# Altium integrated library WL-TMRW THT LED round mono-color waterclear.IntLib: 8 symbols
Pins are listed as number, name and electrical type; pins without a type are passive.

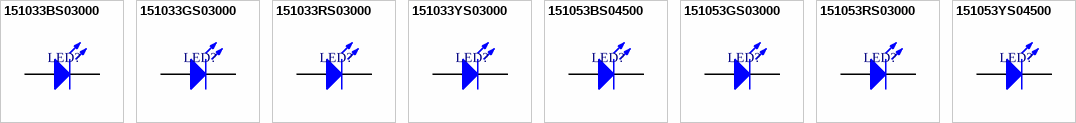
[diagram p0: symbols 151033BS03000 to 151053YS04500]

## 151033BS03000
designator LED?
THT LED round mono-color waterclear, WL-TMRW , Blue; PartNumber: 151033BS03000; PackageReference: Type 3mm; Emitting color: Blue; ComponentLink1Description: Manufacturer URL; ComponentLink1URL: http://www.we-online.com; ComponentLink2Description: Datasheet; ComponentLink2URL: http://katalog.we-online.de/pbs/datasheet/7448042001.pdfhttp://katalog.we-online.de/pbs/datasheet/7448042001.pdfhttp://katalog.we-online.de/pbs/datasheet/7448042001.pdfhttp://katalog.we-online.de/pbs/datasheet/151033BS03000.pdf
footprint Type 3mm (THT, LED-3mm, 2pin- Body 4.15mm(max))
pins: 1 K, 2 A

## 151033GS03000
designator LED?
THT LED round mono-color waterclear, THT WL-TMRW ,Green; PartNumber: 151033GS03000; PackageReference: Type 3mm; Emitting color: Green; ComponentLink1Description: Manufacturer URL; ComponentLink1URL: http://www.we-online.com; ComponentLink2Description: Datasheet; ComponentLink2URL: http://katalog.we-online.de/pbs/datasheet/7448042001.pdfhttp://katalog.we-online.de/pbs/datasheet/7448042001.pdfhttp://katalog.we-online.de/pbs/datasheet/7448042001.pdfhttp://katalog.we-online.de/pbs/datasheet/151033GS03000.pdf
footprint Type 3mm (THT, LED-3mm, 2pin- Body 4.15mm(max))
pins: 1 K, 2 A

## 151033RS03000
designator LED?
THT LED round mono-color waterclear, WL-TMRW, Red; PartNumber: 151033RS03000; PackageReference: Type 3mm; Emitting color: Red; ComponentLink1Description: Manufacturer URL; ComponentLink1URL: http://www.we-online.com; ComponentLink2Description: Datasheet; ComponentLink2URL: http://katalog.we-online.de/pbs/datasheet/7448042001.pdfhttp://katalog.we-online.de/pbs/datasheet/7448042001.pdfhttp://katalog.we-online.de/pbs/datasheet/7448042001.pdfhttp://katalog.we-online.de/pbs/datasheet/151033RS03000.pdf
footprint Type 3mm (THT, LED-3mm, 2pin- Body 4.15mm(max))
pins: 1 K, 2 A

## 151033YS03000
designator LED?
THT LED round mono-color waterclear, WL-TMRW, Yellow; PartNumber: 151033YS03000; PackageReference: Type 3mm; Emitting color: Yellow; ComponentLink1Description: Manufacturer URL; ComponentLink1URL: http://www.we-online.com; ComponentLink2Description: Datasheet; ComponentLink2URL: http://katalog.we-online.de/pbs/datasheet/7448042001.pdfhttp://katalog.we-online.de/pbs/datasheet/7448042001.pdfhttp://katalog.we-online.de/pbs/datasheet/7448042001.pdfhttp://katalog.we-online.de/pbs/datasheet/151033YS03000.pdf
footprint Type 3mm (THT, LED-3mm, 2pin- Body 4.15mm(max))
pins: 1 K, 2 A

## 151053BS04500
designator LED?
THT LED round mono-color waterclear, WL-TMRW ,Blue; PartNumber: 151053BS04500; PackageReference: Type 5mm; Emitting color: Blue; ComponentLink1Description: Manufacturer URL; ComponentLink1URL: http://www.we-online.com; ComponentLink2Description: Datasheet; ComponentLink2URL: http://katalog.we-online.de/pbs/datasheet/7448042001.pdfhttp://katalog.we-online.de/pbs/datasheet/7448042001.pdfhttp://katalog.we-online.de/pbs/datasheet/7448042001.pdfhttp://katalog.we-online.de/pbs/datasheet/151053BS04500.pdf
footprint Type 5mm (THT, LED-5mm, 2pin- Body 5.8mm)
pins: 1 K, 2 A

## 151053GS03000
designator LED?
THT LED round mono-color waterclear, WL-TMRW, Green; PartNumber: 151053GS03000; PackageReference: Type 5mm; Emitting color: Green; ComponentLink1Description: Manufacturer URL; ComponentLink1URL: http://www.we-online.com; ComponentLink2Description: Datasheet; ComponentLink2URL: http://katalog.we-online.de/pbs/datasheet/7448042001.pdfhttp://katalog.we-online.de/pbs/datasheet/7448042001.pdfhttp://katalog.we-online.de/pbs/datasheet/7448042001.pdfhttp://katalog.we-online.de/pbs/datasheet/151053GS03000.pdf
footprint Type 5mm (THT, LED-5mm, 2pin- Body 5.8mm)
pins: 1 K, 2 A

## 151053RS03000
designator LED?
THT LED round mono-color waterclear,  WL-TMRW ,Red; PartNumber: 151053RS03000; PackageReference: Type 5mm; Emitting color: Red; ComponentLink1Description: Manufacturer URL; ComponentLink1URL: http://www.we-online.com; ComponentLink2Description: Datasheet; ComponentLink2URL: http://katalog.we-online.de/pbs/datasheet/7448042001.pdfhttp://katalog.we-online.de/pbs/datasheet/7448042001.pdfhttp://katalog.we-online.de/pbs/datasheet/7448042001.pdfhttp://katalog.we-online.de/pbs/datasheet/151053RS03000.pdf
footprint Type 5mm (THT, LED-5mm, 2pin- Body 5.8mm)
pins: 1 K, 2 A

## 151053YS04500
designator LED?
THT LED round mono-color waterclear, WL-TMRW, Yellow; PartNumber: 151053YS04500; PackageReference: Type 5mm; Emitting color: Yellow; ComponentLink1Description: Manufacturer URL; ComponentLink1URL: http://www.we-online.com; ComponentLink2Description: Datasheet; ComponentLink2URL: http://katalog.we-online.de/pbs/datasheet/7448042001.pdfhttp://katalog.we-online.de/pbs/datasheet/7448042001.pdfhttp://katalog.we-online.de/pbs/datasheet/7448042001.pdfhttp://katalog.we-online.de/pbs/datasheet/151053YS04500.pdf
footprint Type 5mm (THT, LED-5mm, 2pin- Body 5.8mm)
pins: 1 K, 2 A